# Altium schematic symbol library SMA_1.SchLib: 1 symbol
Pins are listed as number, name and electrical type; pins without a type are passive.

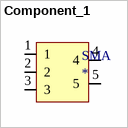
[diagram p0: symbol Component_1]

## Component_1
designator SMA
footprint SMA
pins: 1, 2, 3, 4, 5